# EAGLE library part ATMEGA16 (library Strutz Electronic Industries)
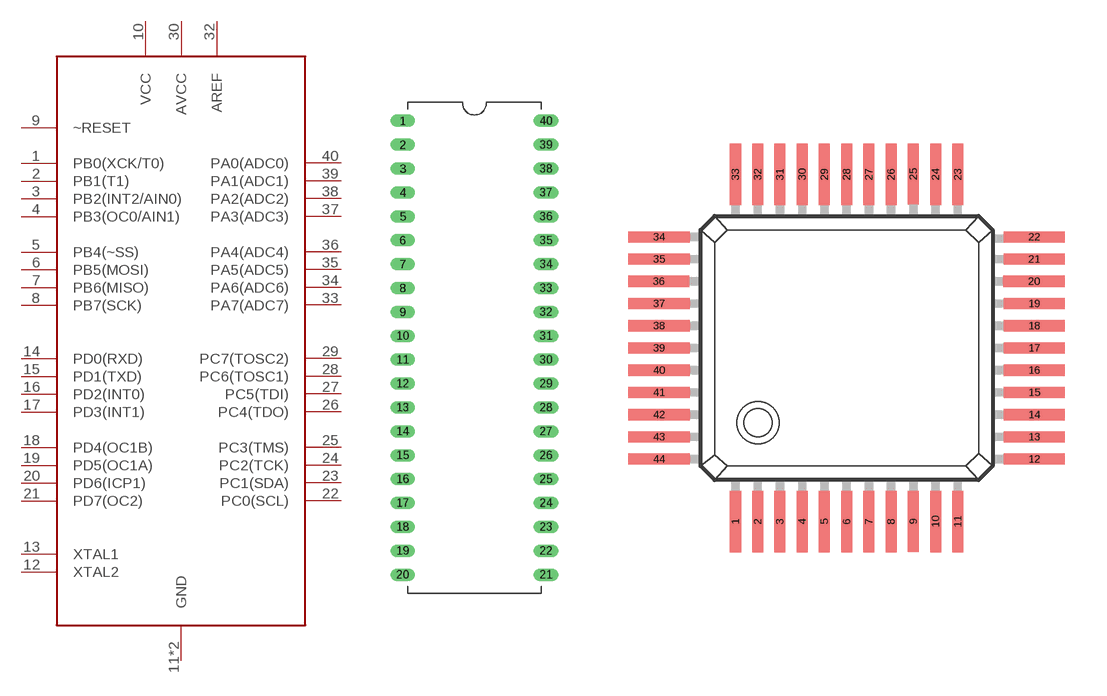
[diagram p5: symbol with the pads of 40-DIP; footprints 40-DIP, 44-QFP_0.8]

Designator prefix -

## ATMEGA16DIP  [40-DIP]
1  PB0(XCK/T0)
2  PB1(T1)
3  PB2(INT2/AIN0)
4  PB3(OC0/AIN1)
5  PB4(~SS)
6  PB5(MOSI)
7  PB6(MISO)
8  PB7(SCK)
9  ~RESET
10  VCC
11  GND
12  XTAL2
13  XTAL1
14  PD0(RXD)
15  PD1(TXD)
16  PD2(INT0)
17  PD3(INT1)
18  PD4(OC1B)
19  PD5(OC1A)
20  PD6(ICP1)
21  PD7(OC2)
22  PC0(SCL)
23  PC1(SDA)
24  PC2(TCK)
25  PC3(TMS)
26  PC4(TDO)
27  PC5(TDI)
28  PC6(TOSC1)
29  PC7(TOSC2)
30  AVCC
31  GND
32  AREF
33  PA7(ADC7)
34  PA6(ADC6)
35  PA5(ADC5)
36  PA4(ADC4)
37  PA3(ADC3)
38  PA2(ADC2)
39  PA1(ADC1)
40  PA0(ADC0)

## ATMEGA16QFP  [44-QFP_0.8]
1  PB5(MOSI)
2  PB6(MISO)
3  PB7(SCK)
4  ~RESET
5  VCC
6  GND
7  XTAL2
8  XTAL1
9  PD0(RXD)
10  PD1(TXD)
11  PD2(INT0)
12  PD3(INT1)
13  PD4(OC1B)
14  PD5(OC1A)
15  PD6(ICP1)
16  PD7(OC2)
17  VCC
18  GND
19  PC0(SCL)
20  PC1(SDA)
21  PC2(TCK)
22  PC3(TMS)
23  PC4(TDO)
24  PC5(TDI)
25  PC6(TOSC1)
26  PC7(TOSC2)
27  AVCC
28  GND
29  AREF
30  PA7(ADC7)
31  PA6(ADC6)
32  PA5(ADC5)
33  PA4(ADC4)
34  PA3(ADC3)
35  PA2(ADC2)
36  PA1(ADC1)
37  PA0(ADC0)
38  VCC
39  GND
40  PB0(XCK/T0)
41  PB1(T1)
42  PB2(INT2/AIN0)
43  PB3(OC0/AIN1)
44  PB4(~SS)

## Footprint 40-DIP (pad centres in mm)
drill 0.8 long: 1 -7.62,24.13; 2 -7.62,21.59; 3 -7.62,19.05; 4 -7.62,16.51; 5 -7.62,13.97; 6 -7.62,11.43; 7 -7.62,8.89; 8 -7.62,6.35; 9 -7.62,3.81; 10 -7.62,1.27; 11 -7.62,-1.27; 12 -7.62,-3.81; 13 -7.62,-6.35; 14 -7.62,-8.89; 15 -7.62,-11.43; 16 -7.62,-13.97; 17 -7.62,-16.51; 18 -7.62,-19.05; 19 -7.62,-21.59; 20 -7.62,-24.13; 21 7.62,-24.13; 22 7.62,-21.59; 23 7.62,-19.05; 24 7.62,-16.51; 25 7.62,-13.97; 26 7.62,-11.43; 27 7.62,-8.89; 28 7.62,-6.35; 29 7.62,-3.81; 30 7.62,-1.27; 31 7.62,1.27; 32 7.62,3.81; 33 7.62,6.35; 34 7.62,8.89; 35 7.62,11.43; 36 7.62,13.97; 37 7.62,16.51; 38 7.62,19.05; 39 7.62,21.59; 40 7.62,24.13

## Footprint 44-QFP_0.8 (pad centres in mm)
smd 0.4 x 2.2: 1 -4,-6.25; 2 -3.2,-6.25; 3 -2.4,-6.25; 4 -1.6,-6.25; 5 -0.8,-6.25; 6 0,-6.25; 7 0.8,-6.25; 8 1.6,-6.25; 9 2.4,-6.24; 10 3.2,-6.25; 11 4,-6.25; 23 4,6.25; 24 3.2,6.25; 25 2.4,6.26; 26 1.6,6.25; 27 0.8,6.25; 28 0,6.25; 29 -0.8,6.25; 30 -1.6,6.25; 31 -2.4,6.25; 32 -3.2,6.25; 33 -4,6.25
smd 2.2 x 0.4: 12 6.75,-4; 13 6.75,-3.2; 14 6.75,-2.4; 15 6.75,-1.6; 16 6.75,-0.8; 17 6.75,0; 18 6.75,0.8; 19 6.75,1.6; 20 6.74,2.4; 21 6.75,3.2; 22 6.75,4; 34 -6.75,4; 35 -6.75,3.2; 36 -6.76,2.4; 37 -6.75,1.6; 38 -6.75,0.8; 39 -6.75,0; 40 -6.75,-0.8; 41 -6.75,-1.6; 42 -6.75,-2.4; 43 -6.75,-3.2; 44 -6.75,-4